# EAGLE library part MAX44009 (library Maxim)
Ambient Light Sensor
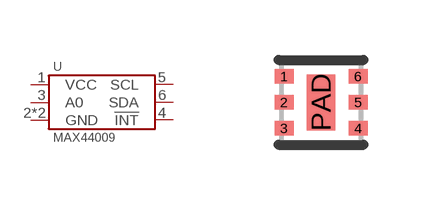
[diagram p0: symbol with the pads of MAX44009; footprint MAX44009]

Designator prefix U

## MAX44009  [MAX44009]
1  VCC
2  GND
3  A0
4  !INT
5  SCL
6  SDA
PAD  GND

## Footprint MAX44009 (pad centres in mm)
smd 0.48 x 0.36: 1 -0.925,0.65; 2 -0.925,0; 3 -0.925,-0.65; 4 0.925,-0.65; 5 0.925,0; 6 0.925,0.65
smd 0.71 x 1.4: PAD 0,0